# Altium schematic symbol library LM385M3X-1.2.Schlib: 1 symbol
Pins are listed as number, name and electrical type; pins without a type are passive.

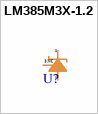
[diagram p0: symbol LM385M3X-1.2]

## LM385M3X-1.2
designator U?
Micropower Voltage Reference 1.235V
pins: 1, 2, 3
text: 3 NC